# EAGLE library part YM2612 (library YM2612)
YM2612 - Yamaha FM Synthesis IC
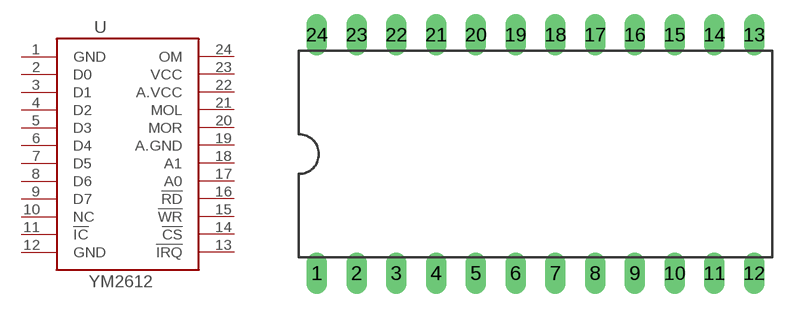
[diagram p0: symbol with the pads of DIP24; footprint DIP24]

Designator prefix U

## YM2612  [DIP24]
1  GND
2  D0
3  D1
4  D2
5  D3
6  D4
7  D5
8  D6
9  D7
10  NC
11  !IC!
12  GND
13  !IRQ!
14  !CS!
15  !WR!
16  !RD!
17  A0
18  A1
19  A.GND
20  MOR
21  MOL
22  A.VCC
23  VCC
24  OM

## Footprint DIP24 (pad centres in mm)
drill 0.813 long: 1 -13.97,-7.62; 2 -11.43,-7.62; 3 -8.89,-7.62; 4 -6.35,-7.62; 5 -3.81,-7.62; 6 -1.27,-7.62; 7 1.27,-7.62; 8 3.81,-7.62; 9 6.35,-7.62; 10 8.89,-7.62; 11 11.43,-7.62; 12 13.97,-7.62; 13 13.97,7.62; 14 11.43,7.62; 15 8.89,7.62; 16 6.35,7.62; 17 3.81,7.62; 18 1.27,7.62; 19 -1.27,7.62; 20 -3.81,7.62; 21 -6.35,7.62; 22 -8.89,7.62; 23 -11.43,7.62; 24 -13.97,7.62